# EAGLE library part 6180XX231121_618025231121 (library WR-DSUB)
WR-DSUB 8.08 mm Female Angled PCB Connector w. Hex Screw Kind Properties Quality Class：3 as per IEC 60 603-13 Gender:Female Type:Angled Insulator Material:PBT Insulator Flammability Rating:UL94 V-0 Color:Black Contact Material:Copper Alloy Contact Plating:Gold Contact Type:Stamped Shielding Material:Steel Shielding Plating:Nickel General Information Operating Temperature:-55 up to +105 °C Compliance：RoHS Electrical Properties IR 1：3 A Working Voltage:125 V (AC) Withstanding Voltage:1000 V (AC) Contact Resistance:30 mΩ <https://www.we-online.com/catalog/media/o33082v209%20Family_WR-DSUB_6180xx231121.jpg> Details see: https://www.we-online.com/catalog/en/DSUB_FEMALE_ANGLED_PCB_CONNECTOR_W_HEX_SCREW_8_08MM_6180XX231121/ Updated by Yingchun, Shan 2020-01-13 2020 (C) Würth Elektronik
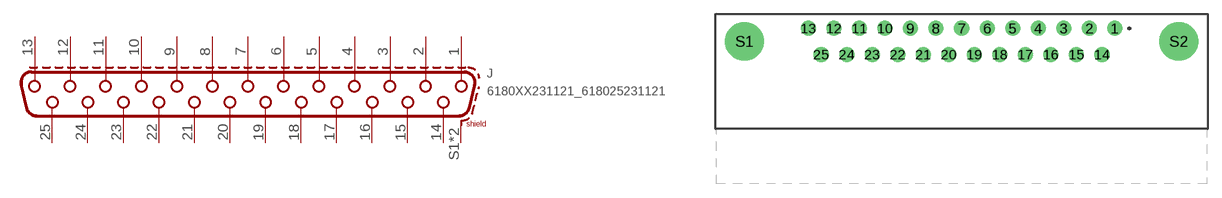
[diagram p46: symbol with the pads of 618025231121; footprint 618025231121]

Designator prefix J

## 6180XX231121_618025231121 (DATASHEET-URL: https://www.we-online.com/redexpert/spec/618025231121?ae; GENDER: Female; OPERATING-TEMPERATURE: -55 °C up to +105 °C; PART-NUMBER: 618025231121; PINS: 25; TYPE: Angled; VALUE: 618025231121; WORKING-VOLTAGE: 125VAC)  [618025231121]
1  1
2  2
3  3
4  4
5  5
6  6
7  7
8  8
9  9
10  10
11  11
12  12
13  13
14  14
15  15
16  16
17  17
18  18
19  19
20  20
21  21
22  22
23  23
24  24
25  25
S1  SHIELD
S2  SHIELD

## Footprint 618025231121 (pad centres in mm)
WR-DSUB 8.08 mm Female Angled PCB Connector w. Hex Screw,25 Pins
drill 1.09: 1 16.62,7.72; 2 13.85,7.72; 3 11.08,7.72; 4 8.31,7.72; 5 5.54,7.72; 6 2.77,7.72; 7 0,7.72; 8 -2.77,7.72; 9 -5.54,7.72; 10 -8.31,7.72; 11 -11.08,7.72; 12 -13.85,7.72; 13 -16.62,7.72; 14 15.235,4.88; 15 12.465,4.88; 16 9.695,4.88; 17 6.925,4.88; 18 4.155,4.88; 19 1.385,4.88; 20 -1.385,4.88; 21 -4.155,4.88; 22 -6.925,4.88; 23 -9.695,4.88; 24 -12.465,4.88; 25 -15.235,4.88
drill 3.2: S1 -23.55,6.3; S2 23.55,6.3